# Altium schematic symbol library TB005-762-02BE.SchLib: 1 symbol
Pins are listed as number, name and electrical type; pins without a type are passive.

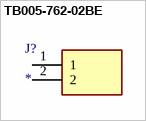
[diagram p0: symbol TB005-762-02BE]

## TB005-762-02BE
designator J?
Connector; Manufacturer_Name: Same Sky; Manufacturer_Part_Number: TB005-762-02BE; Datasheet Link: https://www.sameskydevices.com/product/resource/supplyframepdf/tb005-762.pdf; Height: 21.7mm; Mouser Part Number: 490-TB005-762-02BE; Mouser Price/Stock: https://www.mouser.co.uk/ProductDetail/Same-Sky/TB005-762-02BE?qs=vLWxofP3U2zXv1H2wuShow%3D%3D; Arrow Part Number: TB005-762-02BE; Arrow Price/Stock: https://www.arrow.com/en/products/tb005-762-02be/cui-devices?region=nac
footprint TB00576202BE
pins: 1, 2